# Altium footprint library BGA6C40P3X2_121X81X60.PcbLib: 1 footprints
Each footprint in its own frame and in the unit in brackets; x right, y up, seen from the top. Pads: shape width x height; smd on the part's side, far side on the other; paste and mask are expansions set on the pad; w line width, h text height; cw(c..) or ccw(c..) is an arc to the next point about the centre after c.
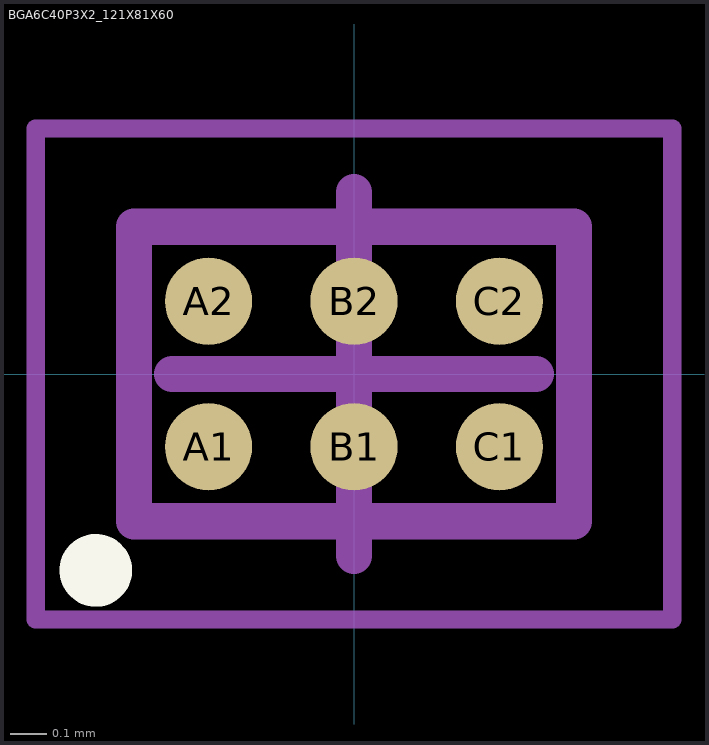
[diagram p0: the footprint, top view; thin cyan lines are the x and y axes]

## BGA6C40P3X2_121X81X60 [mm] "BGA, 6-Leads, Body 1.21x0.81mmx0.60mm, Pitch 0.40mm"
height 0.6
pads (6):
  round 0.24 smd: A1(-0.4,-0.2) A2(-0.4,0.2) B1(0,-0.2) B2(0,0.2) C1(0.4,-0.2) C2(0.4,0.2)
Top Overlay:
  circle w0.1: c-0.71,-0.54 r0.05
Top Assembly:
  lines w0.1: -0.605,-0.405 0.605,-0.405 0.605,0.405 -0.605,0.405 -0.605,-0.405
Top Courtyard:
  lines w0.05: -0.875,-0.675 0.875,-0.675 0.875,0.675 -0.875,0.675 -0.875,-0.675
  lines w0.1: -0.5,0 0.5,0 ; 0,-0.5 0,0.5
3D body "BGA6C40P3X2_121X81X60.step": height 0.6, standoff 0, extent -0.605,-0.405 0.605,0.405